# Altium footprint library AC-dc controller.PcbLib: 1 footprints
Each footprint in its own frame and in the unit in brackets; x right, y up, seen from the top. Pads: shape width x height; smd on the part's side, far side on the other; paste and mask are expansions set on the pad; w line width, h text height; cw(c..) or ccw(c..) is an arc to the next point about the centre after c.
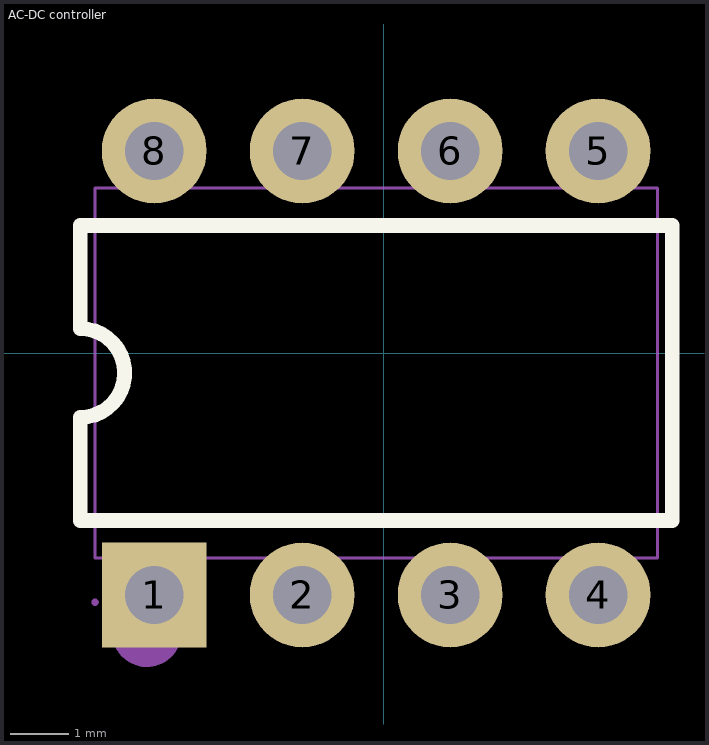
[diagram p0: the footprint, top view; thin cyan lines are the x and y axes]

## AC-DC controller [mm]
pads (8):
  rect 1.8x1.8 hole 1 paste-2539.97 mask+0.05: 1(-3.937,-4.145)
  round 1.8 hole 1 paste-2539.97 mask+0.05: 2(-1.397,-4.145) 3(1.143,-4.145) 4(3.683,-4.145) 5(3.683,3.475) 6(1.143,3.475) 7(-1.397,3.475) 8(-3.937,3.475)
Top Overlay:
  lines w0.254: -5.207,-2.866 4.953,-2.866 4.953,2.199 -5.207,2.199 -5.207,0.427 cw(c-5.207,-0.335) -5.207,-1.097 -5.207,-2.866
Mechanical 6:
  circle w0.6: c-4.064,-4.78 r0.3
Mechanical 15:
  region: -4.893,-4.272 -4.894,-4.248 -4.929,-4.214 -4.977,-4.214 -5.012,-4.248 -5.013,-4.272 -5.012,-4.296 -4.977,-4.33 -4.929,-4.33 -4.894,-4.296 -4.893,-4.272
  region: -4.165,3.348 -4.165,3.602 -3.709,3.602 -3.709,3.348
  region: -1.625,3.348 -1.625,3.602 -1.169,3.602 -1.169,3.348
  region: 0.915,3.348 0.915,3.602 1.371,3.602 1.371,3.348
  region: 3.455,3.348 3.455,3.602 3.911,3.602 3.911,3.348
  region: 3.455,-4.272 3.455,-4.018 3.911,-4.018 3.911,-4.272
  region: 0.915,-4.272 0.915,-4.018 1.371,-4.018 1.371,-4.272
  region: -1.625,-4.272 -1.625,-4.018 -1.169,-4.018 -1.169,-4.272
  region: -4.165,-4.018 -3.709,-4.018 -3.709,-4.272 -4.165,-4.272
  region: 0.523,3.602 1.773,3.602 1.773,2.83 0.523,2.83
  region: -2.017,3.602 -0.767,3.602 -0.767,2.83 -2.017,2.83
  region: 1.763,-4.272 0.513,-4.272 0.513,-3.5 1.763,-3.5
  region: -0.777,-4.272 -2.027,-4.272 -2.027,-3.5 -0.777,-3.5
  region: -4.165,-4.272 -3.317,-4.272 -3.317,-3.49 -4.165,-3.49
  region: 3.911,3.602 3.063,3.602 3.063,2.82 3.911,2.82
  region: -3.317,3.602 -4.165,3.602 -4.165,2.82 -3.317,2.82
  region: 3.063,-4.272 3.911,-4.272 3.911,-3.49 3.063,-3.49
  lines w0.051: -4.953,-3.51 4.699,-3.51 4.699,2.84 -4.953,2.84 -4.953,-3.51